# Altium schematic symbol library EPCS16SI8N.SchLib: 1 symbol
Pins are listed as number, name and electrical type; pins without a type are passive.

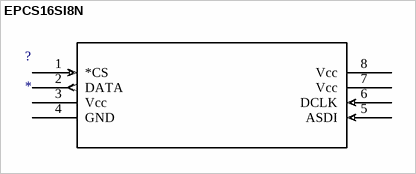
[diagram p0: symbol EPCS16SI8N]

## EPCS16SI8N
designator ?
Imported; Manufacturer_Part_Number: EPCS16SI8N; Voltage - Supply: 3 V ~ 3.6 V; Memory Size: 16Mb; Programmable Type: In System Programmable; Vendor: Altera; C: Copyright (C) 2015 Accelerated Designs. All rights reserved; NewarkPartNumber: 80P4116; Operating Temperature: -40В°C ~ 85В°C; Packaging: Tube; Package / Case: 8-SOIC (0.154", 3.90mm Width); DigiKeyPartNumber: 544-2567-5-ND; Quantity_Available: 6694; DataSheet: http://www.altera.com/literature/hb/cfg/cyc_c51014.pdf; Supplier Device Package: 8-SOIC; Copyright: Copyright (C) 2015 Accelerated Designs. All rights reserved; RefDes: RefDes; Type: DEV; Value: Value
footprint 8-SOIC
pins: 1 *CS (in), 2 DATA (out), 3 Vcc (power), 4 GND (power), 5 ASDI (in), 6 DCLK (in), 7 Vcc (power), 8 Vcc (power)